# Altium schematic symbol library Schlib1.SchLib: 1 symbol
Pins are listed as number, name and electrical type; pins without a type are passive.

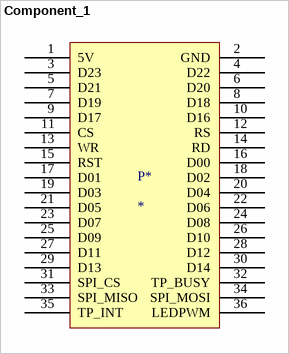
[diagram p0: symbol Component_1]

## Component_1
designator P*
LCD3.6
pins: 1 5V, 2 GND, 3 D23, 4 D22, 5 D21, 6 D20, 7 D19, 8 D18, 9 D17, 10 D16, 11 CS, 12 RS, 13 WR, 14 RD, 15 RST, 16 D00, 17 D01, 18 D02, 19 D03, 20 D04, 21 D05, 22 D06, 23 D07, 24 D08, 25 D09, 26 D10, 27 D11, 28 D12, 29 D13, 30 D14, 31 SPI_CS, 32 TP_BUSY, 33 SPI_MISO, 34 SPI_MOSI, 35 TP_INT, 36 LEDPWM